# Altium schematic symbol library IRLM5203-N-GSD.SchLib: 1 symbol
Pins are listed as number, name and electrical type; pins without a type are passive.

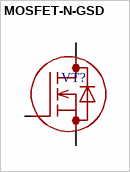
[diagram p0: symbol MOSFET-N-GSD]

## MOSFET-N-GSD
designator VT?
footprint SOT23-3
pins: 1 G, 2 S, 3 D